# Altium footprint library F1206.PcbLib: 1 footprints
Each footprint in its own frame and in the unit in brackets; x right, y up, seen from the top. Pads: shape width x height; smd on the part's side, far side on the other; paste and mask are expansions set on the pad; w line width, h text height; cw(c..) or ccw(c..) is an arc to the next point about the centre after c.
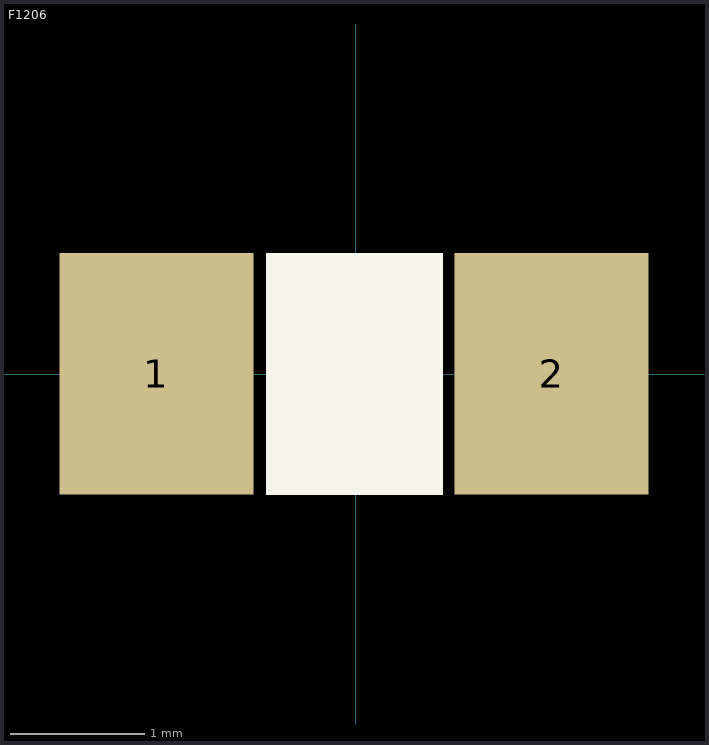
[diagram p0: the footprint, top view; thin cyan lines are the x and y axes]

## F1206 [mm] "Fuse in 1206 package"
height 1
pads (2):
  rect 1.45x1.8 smd: 1(-1.488,0.005) 2(1.462,0.005)
Top Overlay:
  rectangle: -0.669,-0.901 0.652,0.908
3D body "User Library-Fuse_1206.step": height 1.17, standoff 0, extent -1.735,-0.896 1.665,0.904